# Altium footprint library CVC_channel.PcbLib: 7 footprints
Each footprint in its own frame and in the unit in brackets; x right, y up, seen from the top. Pads: shape width x height; smd on the part's side, far side on the other; paste and mask are expansions set on the pad; w line width, h text height; cw(c..) or ccw(c..) is an arc to the next point about the centre after c.
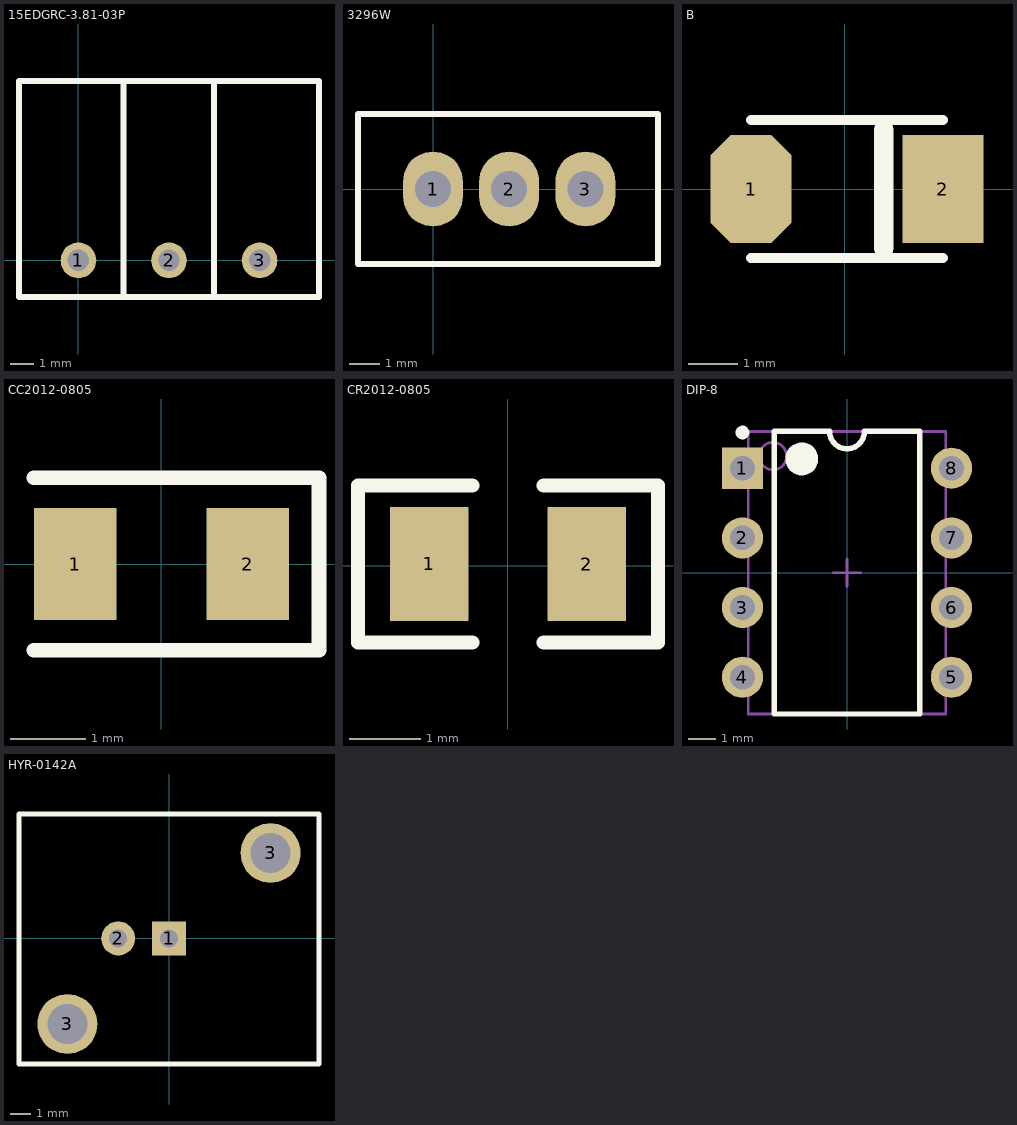
[diagram p0: the footprints below, top view; thin cyan lines are the x and y axes]

## 15EDGRC-3.81-03P [mm]
pads (3):
  round 1.5 hole 0.9: 1(0,0) 2(3.81,0) 3(7.62,0)
Top Overlay:
  lines w0.254: 1.9,-1.55 1.9,7.5 ; 5.7,-1.55 5.7,7.5 ; -2.5,-1.55 -2.5,7.55 10.12,7.55 10.12,-1.55 -2.5,-1.55

## 3296W [mm]
pads (3):
  oval 2x2.5 hole 1.2: 1(0,0) 2(2.54,0) 3(5.08,0)
Top Overlay:
  lines w0.2: -2.5,-2.5 -2.5,2.5 7.5,2.5 7.5,-2.5 -2.5,-2.5

## B [mm]
pads (2):
  oct 1.65x2.2 smd: 1(-1.9,0)
  rect 1.65x2.2 smd: 2(2,0)
Top Overlay:
  lines w0.2: -1.9,-1.4 2,-1.4 ; -1.9,1.4 2,1.4 ; 0.8,-1.4 0.9,-1.4
  lines w0.4: 0.8,-1.2 0.8,1.2

## CC2012-0805 [mm]
pads (2):
  rect 1.1x1.5 smd: 1(-1.15,0) 2(1.15,0)
Top Overlay:
  lines w0.2: -1.7,-1.15 2.1,-1.15 2.1,1.15 -1.7,1.15

## CR2012-0805 [mm]
pads (2):
  rect 1.1x1.6 smd: 1(-1.1,0.025) 2(1.1,0.025)
Top Overlay:
  lines w0.2: -0.5,-1.075 -2.1,-1.075 -2.1,1.125 -0.5,1.125 ; 0.5,-1.075 2.1,-1.075 2.1,1.125 0.5,1.125

## DIP-8 [mm]
pads (8):
  rect 1.5x1.5 hole 0.9: 1(-3.81,3.81)
  round 1.5 hole 0.9: 2(-3.81,1.27) 3(-3.81,-1.27) 4(-3.81,-3.81) 5(3.81,-3.81) 6(3.81,-1.27) 7(3.81,1.27) 8(3.81,3.81)
Top Overlay:
  circle w0.25: c-3.81,5.11 r0.125
  circle w0.6: c-1.65,4.15 r0.3
  lines w0.2: -2.65,-5.15 -2.65,5.15 -0.635,5.15 ccw(c0,5.15) 0.635,5.15 2.65,5.15 2.65,-5.15 -2.65,-5.15
Mechanical 13:
  circle w0.1: c-2.7,4.25 r0.5
  lines w0.1: -3.6,-5.15 -3.6,5.15 3.6,5.15 3.6,-5.15 -3.6,-5.15
Mechanical 15:
  lines w0.1: -0.5,0 0.5,0 ; 0,-0.5 0,0.5
3D body: height 5.08, standoff 0, extent -3.6,-5.15 3.6,5.15

## HYR-0142A [mm]
pads (4):
  rect 1.7x1.7 hole 0.9: 1(0,0)
  round 1.7 hole 0.9: 2(-2.54,0)
  round 3 hole 2: 3(-5.08,-4.28) 3(5.08,4.27)
Top Overlay:
  lines w0.254: -7.5,-6.28 7.5,-6.28 7.5,6.22 -7.5,6.22 -7.5,-6.28